# Altium footprint library Temctrl.PcbLib: 3 footprints
Each footprint in its own frame and in the unit in brackets; x right, y up, seen from the top. Pads: shape width x height; smd on the part's side, far side on the other; paste and mask are expansions set on the pad; w line width, h text height; cw(c..) or ccw(c..) is an arc to the next point about the centre after c.
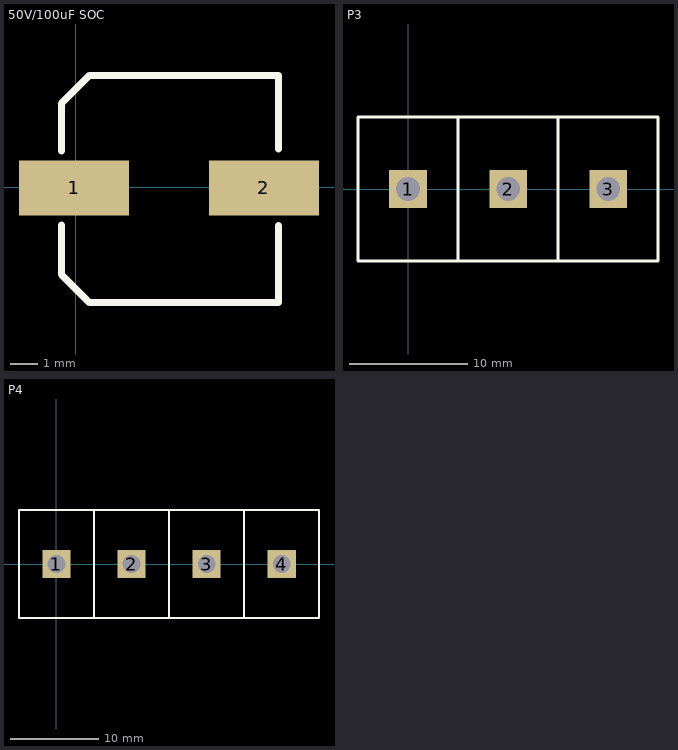
[diagram p0: the footprints below, top view; thin cyan lines are the x and y axes]

## 50V/100uF SOC [mm]
pads (2):
  rect 4x2 smd: 1(-0.051,-0.025) 2(6.838,-0.025)
Top Overlay:
  lines w0.254: -0.508,-2.21 -0.508,-1.372 -0.508,-3.175 ; -0.508,2.108 -0.508,1.321 -0.508,3.048 0.508,4.064 ; 7.366,1.397 7.366,4.064 ; -0.508,-3.175 0.508,-4.191 ; -0.508,-3.175 0.508,-4.191 ; 0.508,-4.191 7.366,-4.191 ; 0.508,-4.191 7.366,-4.191 ; 0.508,4.064 7.366,4.064 ; 0.508,4.064 7.366,4.064 ; 7.366,-4.191 7.366,-1.397 7.366,-4.191

## P3 [mm]
pads (3):
  rect 3.2x3.2 hole 2: 1(0,0) 2(8.509,0) 3(17.018,0)
Top Overlay:
  lines w0.254: 4.25,-6.128 12.75,-6.128 ; 4.25,-6.128 4.25,6.128 ; 4.25,-6.128 -4.25,-6.128 -4.25,6.128 4.25,6.128 ; 4.25,6.128 12.75,6.128 ; 12.75,-6.128 21.25,-6.128 21.25,6.128 12.75,6.128 ; 12.75,-6.128 12.75,6.128

## P4 [mm]
pads (4):
  rect 3.2x3.2 hole 2: 1(0,0) 2(8.509,0) 3(17.018,0) 4(25.527,0)
Top Overlay:
  lines w0.254: 21.25,-6.128 12.75,-6.128 ; 21.25,6.128 12.75,6.128 ; 4.25,-6.128 12.75,-6.128 ; 4.25,-6.128 4.25,6.128 ; 4.25,-6.128 -4.25,-6.128 -4.25,6.128 4.25,6.128 ; 4.25,6.128 12.75,6.128 ; 12.75,-6.128 12.75,6.128 ; 21.259,-6.128 21.259,6.128 29.759,6.128 29.759,-6.128 21.259,-6.128